# Altium footprint library Connectors Atum-el.PcbLib: 1 footprints
Each footprint in its own frame and in the unit in brackets; x right, y up, seen from the top. Pads: shape width x height; smd on the part's side, far side on the other; paste and mask are expansions set on the pad; w line width, h text height; cw(c..) or ccw(c..) is an arc to the next point about the centre after c.
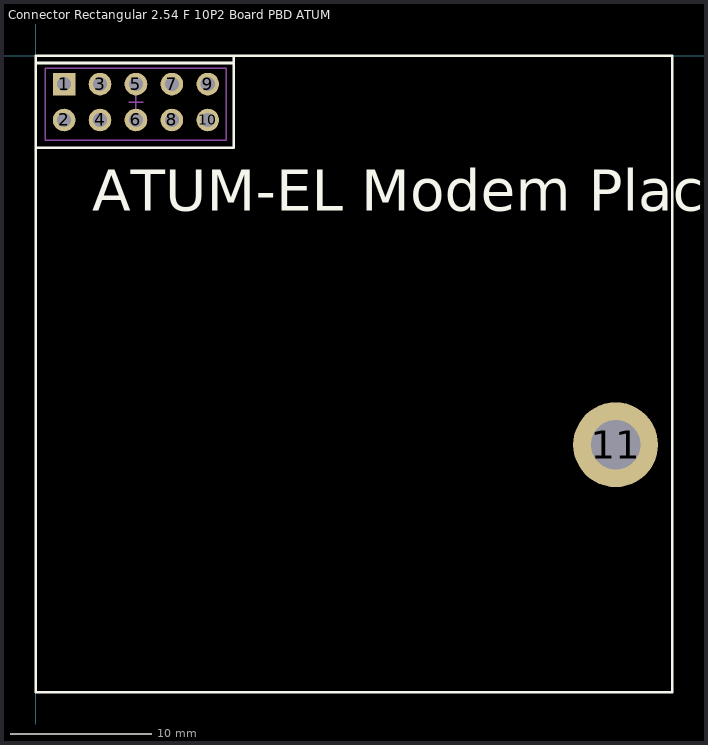
[diagram p0: the footprint, top view; thin cyan lines are the x and y axes]

## Connector Rectangular 2.54 F 10P2 Board PBD ATUM-EL Modem [mm]
height 8.4
pads (11):
  rect 1.6x1.6 hole 1: 1(2,-1.998)
  round 1.6 hole 1: 2(2,-4.537) 3(4.54,-1.998) 4(4.54,-4.538) 5(7.08,-1.998) 6(7.08,-4.538) 7(9.62,-1.998) 8(9.62,-4.538) 9(12.16,-1.998) 10(12.16,-4.538)
  round 6 hole 3.5: 11(41,-27.5)
Top Overlay:
  lines w0.2: 0,-6.5 14,-6.5 14,-0.5 ; 0,0 45,0 45,-45 0,-45 0,0 ; 0,0 14,0 14,-0.5 ; 0,0 0,-0.5 14,-0.5
  text "ATUM-EL Modem Place" at 4,-11.9 h5
Top Package:
  circle w0.1: c2,-1.999 r0.4
  circle w0.1: c7.08,-1.999 r0.4
  circle w0.1: c9.62,-1.999 r0.4
  circle w0.1: c2,-4.539 r0.4
  circle w0.1: c7.08,-4.539 r0.4
  circle w0.1: c9.62,-4.539 r0.4
  circle w0.1: c4.54,-1.999 r0.4
  circle w0.1: c12.16,-1.999 r0.4
  circle w0.1: c4.54,-4.539 r0.4
  circle w0.1: c12.16,-4.539 r0.4
  lines w0.1: 0.68,-5.969 13.48,-5.969 13.48,-0.869 0.68,-0.869 0.68,-5.969
Top Border:
  lines w0.1: 0,-45 45,-45 45,0 0,0 0,-45 ; 6.572,-3.269 7.588,-3.269 6.572,-3.269 ; 7.08,-3.777 7.08,-2.761 7.08,-3.777
3D body "User Library-PBD2_54-10.step": height 8.5, standoff -2.6, extent 0.73,-5.909 13.43,-0.829